# Altium footprint library BGA2815,115.PcbLib: 3 footprints
Each footprint in its own frame and in the unit in brackets; x right, y up, seen from the top. Pads: shape width x height; smd on the part's side, far side on the other; paste and mask are expansions set on the pad; w line width, h text height; cw(c..) or ccw(c..) is an arc to the next point about the centre after c.
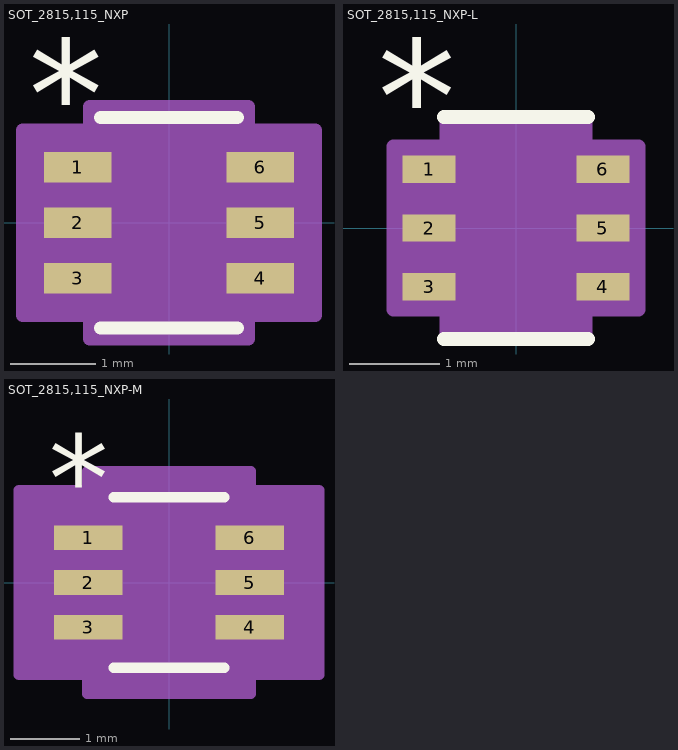
[diagram p0: the footprints below, top view; thin cyan lines are the x and y axes]

## SOT_2815,115_NXP [mil]
pads (6):
  rect 31x14 smd paste+0 mask+0: 1(-42,25.59) 2(-42,0) 3(-42,-25.59) 4(42,-25.59) 5(42,0) 6(42,25.59)
Top Overlay:
  lines w6: -31.5,-48.5 31.5,-48.5 ; -31.5,48.5 31.5,48.5
  text "*" at -64.5,34.59 h50
Mechanical 13:
  lines w0: -12,43.5 ccw(c0,43.5) 12,43.5
  lines w1: -43.5,-31.59 -43.5,-19.59 -26.5,-19.59 -26.5,-31.59 -43.5,-31.59 ; -43.5,-6 -43.5,6 -26.5,6 -26.5,-6 -43.5,-6 ; -43.5,19.59 -43.5,31.59 -26.5,31.59 -26.5,19.59 -43.5,19.59 ; -26.5,-43.5 26.5,-43.5 26.5,43.5 -26.5,43.5 -26.5,-43.5 ; 26.5,-31.59 26.5,-19.59 43.5,-19.59 43.5,-31.59 26.5,-31.59 ; 26.5,-6 26.5,6 43.5,6 43.5,-6 26.5,-6 ; 26.5,19.59 26.5,31.59 43.5,31.59 43.5,19.59 26.5,19.59
  text "*" at -24,-9.5 h50
Mechanical 15:
  region: -36.5,-42.59 -67.5,-42.59 -67.5,42.59 -36.5,42.59 -36.5,53.5 36.5,53.5 36.5,42.59 67.5,42.59 67.5,-42.59 36.5,-42.59 36.5,-53.5 -36.5,-53.5
  lines w6: -67.5,-42.59 -67.5,42.59 -36.5,42.59 -36.5,53.5 36.5,53.5 36.5,42.59 67.5,42.59 67.5,-42.59 36.5,-42.59 36.5,-53.5 -36.5,-53.5 -36.5,-42.59 -67.5,-42.59
3D body "SOT_2815115_NXP.step": height 43.11, standoff 0, extent -43.5,-43.5 43.5,43.5

## SOT_2815,115_NXP-L [mil]
pads (6):
  rect 23x12 smd paste+0 mask+0: 1(-38,25.59) 2(-38,0) 3(-38,-25.59) 4(38,-25.59) 5(38,0) 6(38,25.59)
Top Overlay:
  lines w6: -31.5,-48.5 31.5,-48.5 ; -31.5,48.5 31.5,48.5
  text "*" at -60.5,32.59 h50
Mechanical 13:
  lines w0: -12,43.5 ccw(c0,43.5) 12,43.5
  lines w1: -43.5,-31.59 -43.5,-19.59 -26.5,-19.59 -26.5,-31.59 -43.5,-31.59 ; -43.5,-6 -43.5,6 -26.5,6 -26.5,-6 -43.5,-6 ; -43.5,19.59 -43.5,31.59 -26.5,31.59 -26.5,19.59 -43.5,19.59 ; -26.5,-43.5 26.5,-43.5 26.5,43.5 -26.5,43.5 -26.5,-43.5 ; 26.5,-31.59 26.5,-19.59 43.5,-19.59 43.5,-31.59 26.5,-31.59 ; 26.5,-6 26.5,6 43.5,6 43.5,-6 26.5,-6 ; 26.5,19.59 26.5,31.59 43.5,31.59 43.5,19.59 26.5,19.59
  text "*" at -24,-9.5 h50
Mechanical 15:
  region: -30.5,-35.59 -53.5,-35.59 -53.5,35.59 -30.5,35.59 -30.5,47.5 30.5,47.5 30.5,35.59 53.5,35.59 53.5,-35.59 30.5,-35.59 30.5,-47.5 -30.5,-47.5
  lines w6: -53.5,-35.59 -53.5,35.59 -30.5,35.59 -30.5,47.5 30.5,47.5 30.5,35.59 53.5,35.59 53.5,-35.59 30.5,-35.59 30.5,-47.5 -30.5,-47.5 -30.5,-35.59 -53.5,-35.59
3D body: height 10, standoff 0, extent 0,0 10,10

## SOT_2815,115_NXP-M [mil]
pads (6):
  rect 39x14 smd paste+0 mask+0: 1(-46,25.59) 2(-46,0) 3(-46,-25.59) 4(46,-25.59) 5(46,0) 6(46,25.59)
Top Overlay:
  lines w6: -31.5,-48.5 31.5,-48.5 ; -31.5,48.5 31.5,48.5
  text "*" at -68.5,34.59 h50
Mechanical 13:
  lines w0: -12,43.5 ccw(c0,43.5) 12,43.5
  lines w1: -43.5,-31.59 -43.5,-19.59 -26.5,-19.59 -26.5,-31.59 -43.5,-31.59 ; -43.5,-6 -43.5,6 -26.5,6 -26.5,-6 -43.5,-6 ; -43.5,19.59 -43.5,31.59 -26.5,31.59 -26.5,19.59 -43.5,19.59 ; -26.5,-43.5 26.5,-43.5 26.5,43.5 -26.5,43.5 -26.5,-43.5 ; 26.5,-31.59 26.5,-19.59 43.5,-19.59 43.5,-31.59 26.5,-31.59 ; 26.5,-6 26.5,6 43.5,6 43.5,-6 26.5,-6 ; 26.5,19.59 26.5,31.59 43.5,31.59 43.5,19.59 26.5,19.59
  text "*" at -24,-9.5 h50
Mechanical 15:
  region: -46.5,-52.59 -85.5,-52.59 -85.5,52.59 -46.5,52.59 -46.5,63.5 46.5,63.5 46.5,52.59 85.5,52.59 85.5,-52.59 46.5,-52.59 46.5,-63.5 -46.5,-63.5
  lines w6: -85.5,-52.59 -85.5,52.59 -46.5,52.59 -46.5,63.5 46.5,63.5 46.5,52.59 85.5,52.59 85.5,-52.59 46.5,-52.59 46.5,-63.5 -46.5,-63.5 -46.5,-52.59 -85.5,-52.59
3D body: height 10, standoff 0, extent 0,0 10,10